# Altium footprint library CL05A105MQ5NNNC.PcbLib: 2 footprints
Each footprint in its own frame and in the unit in brackets; x right, y up, seen from the top. Pads: shape width x height; smd on the part's side, far side on the other; paste and mask are expansions set on the pad; w line width, h text height; cw(c..) or ccw(c..) is an arc to the next point about the centre after c.
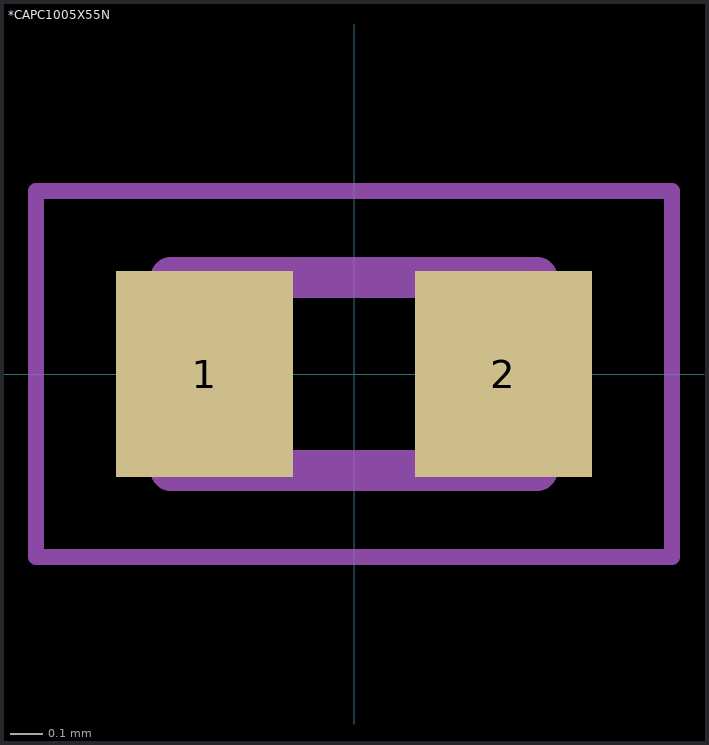
[diagram p0: the footprints below, top view; thin cyan lines are the x and y axes]

## *CAPC1005X55N [mm]
pads (2):
  rect 0.55x0.64 smd: 1(-0.465,0) 2(0.465,0)
Mechanical 4:
  lines w0.127: -0.57,-0.3 -0.57,0.3 ; -0.57,-0.3 0.57,-0.3 ; -0.57,-0.3 -0.57,0.3 ; -0.57,-0.3 0.57,-0.3 ; -0.57,0.3 0.57,0.3 ; -0.57,0.3 0.57,0.3 ; 0.57,-0.3 0.57,0.3 ; 0.57,-0.3 0.57,0.3
Mechanical 16:
  lines w0.05: -0.99,-0.569 -0.99,0.569 0.99,0.569 0.99,-0.569 -0.99,-0.569

## PCBComponent_1 [mm]